# Altium footprint library TSOP.PcbLib: 9 footprints
Each footprint in its own frame and in the unit in brackets; x right, y up, seen from the top. Pads: shape width x height; smd on the part's side, far side on the other; paste and mask are expansions set on the pad; w line width, h text height; cw(c..) or ccw(c..) is an arc to the next point about the centre after c.
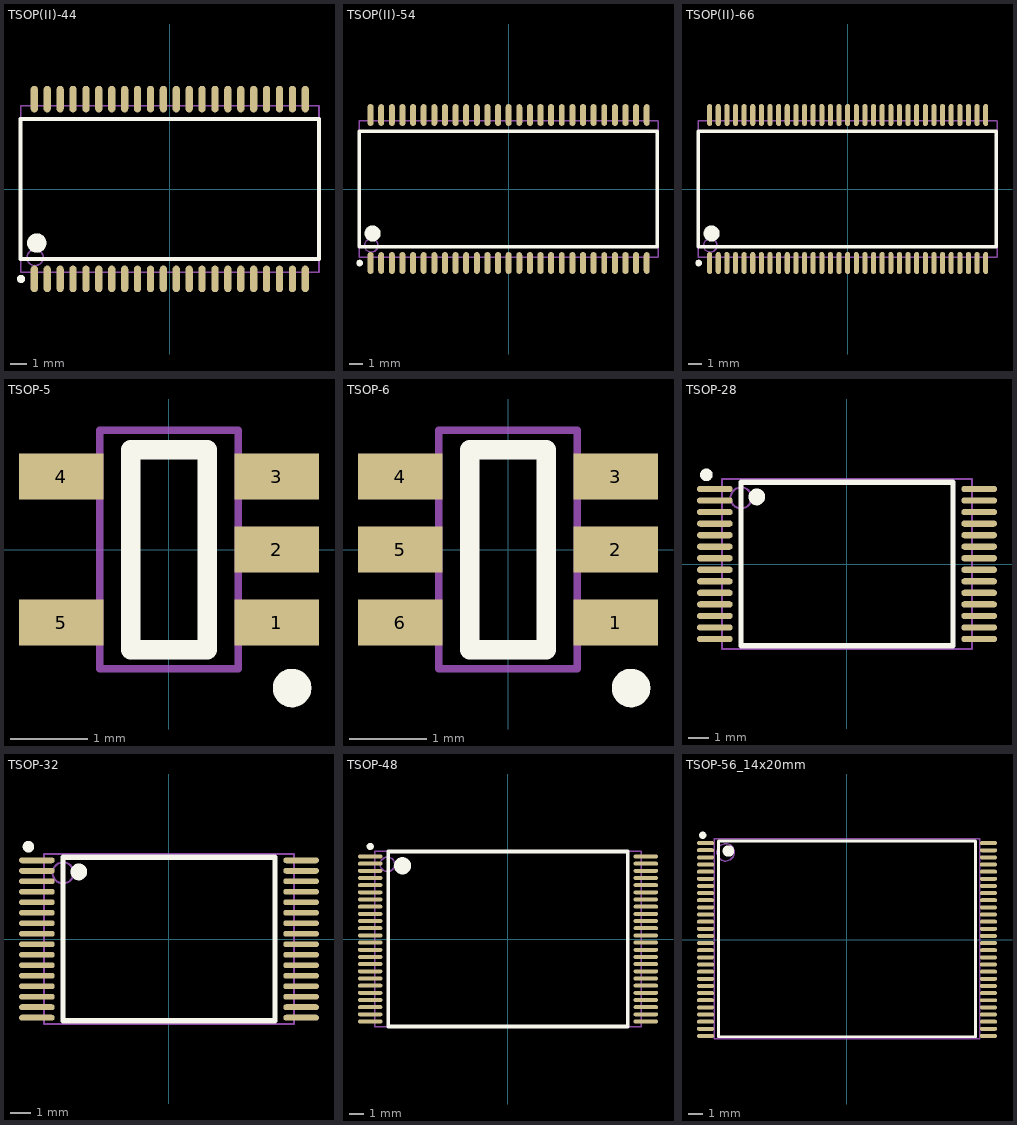
[diagram p0: the footprints below, top view; thin cyan lines are the x and y axes]

## TSOP(II)-44 [mm] "LC-TSOP(II)-44"
pads (44):
  oval 0.45x1.65 smd: 1(-8.4,-5.575) 2(-7.6,-5.575) 3(-6.8,-5.575) 4(-6,-5.575) 5(-5.2,-5.575) 6(-4.4,-5.575) 7(-3.6,-5.575) 8(-2.8,-5.575) 9(-2,-5.575) 10(-1.2,-5.575) 11(-0.4,-5.575) 12(0.4,-5.575) 13(1.2,-5.575) 14(2,-5.575) 15(2.8,-5.575) 16(3.6,-5.575) 17(4.4,-5.575) 18(5.2,-5.575) 19(6,-5.575) 20(6.8,-5.575) 21(7.6,-5.575) 22(8.4,-5.575) 23(8.4,5.575) 24(7.6,5.575) 25(6.8,5.575) 26(6,5.575) 27(5.2,5.575) 28(4.4,5.575) 29(3.6,5.575) 30(2.8,5.575) 31(2,5.575) 32(1.2,5.575) 33(0.4,5.575) 34(-0.4,5.575) 35(-1.2,5.575) 36(-2,5.575) 37(-2.8,5.575) 38(-3.6,5.575) 39(-4.4,5.575) 40(-5.2,5.575) 41(-6,5.575) 42(-6.8,5.575) 43(-7.6,5.575) 44(-8.4,5.575)
Top Overlay:
  circle w0.25: c-9.225,-5.575 r0.125
  circle w0.6: c-8.25,-3.35 r0.3
  lines w0.254: -9.25,-4.35 9.25,-4.35 9.25,4.35 -9.25,4.35 -9.25,-4.35
Mechanical 13:
  circle w0.1: c-8.35,-4.25 r0.5
  lines w0.1: -9.25,-5.15 9.25,-5.15 9.25,5.15 -9.25,5.15 -9.25,-5.15

## TSOP(II)-54 [mm]
pads (54):
  oval 0.45x1.65 smd: 1(-10.4,-5.575) 2(-9.6,-5.575) 3(-8.8,-5.575) 4(-8,-5.575) 5(-7.2,-5.575) 6(-6.4,-5.575) 7(-5.6,-5.575) 8(-4.8,-5.575) 9(-4,-5.575) 10(-3.2,-5.575) 11(-2.4,-5.575) 12(-1.6,-5.575) 13(-0.8,-5.575) 14(0,-5.575) 15(0.8,-5.575) 16(1.6,-5.575) 17(2.4,-5.575) 18(3.2,-5.575) 19(4,-5.575) 20(4.8,-5.575) 21(5.6,-5.575) 22(6.4,-5.575) 23(7.2,-5.575) 24(8,-5.575) 25(8.8,-5.575) 26(9.6,-5.575) 27(10.4,-5.575) 28(10.4,5.575) 29(9.6,5.575) 30(8.8,5.575) 31(8,5.575) 32(7.2,5.575) 33(6.4,5.575) 34(5.6,5.575) 35(4.8,5.575) 36(4,5.575) 37(3.2,5.575) 38(2.4,5.575) 39(1.6,5.575) 40(0.8,5.575) 41(0,5.575) 42(-0.8,5.575) 43(-1.6,5.575) 44(-2.4,5.575) 45(-3.2,5.575) 46(-4,5.575) 47(-4.8,5.575) 48(-5.6,5.575) 49(-6.4,5.575) 50(-7.2,5.575) 51(-8,5.575) 52(-8.8,5.575) 53(-9.6,5.575) 54(-10.4,5.575)
Top Overlay:
  circle w0.25: c-11.225,-5.575 r0.125
  circle w0.6: c-10.25,-3.35 r0.3
  lines w0.254: -11.25,-4.35 11.2,-4.35 11.2,4.35 -11.25,4.35 -11.25,-4.35
Mechanical 13:
  circle w0.1: c-10.35,-4.25 r0.5
  lines w0.1: -11.25,-5.15 11.25,-5.15 11.25,5.15 -11.25,5.15 -11.25,-5.15

## TSOP(II)-66 [mm]
pads (66):
  oval 0.38x1.65 smd mask+0.051: 1(-10.4,-5.575) 2(-9.75,-5.575) 3(-9.1,-5.575) 4(-8.45,-5.575) 5(-7.8,-5.575) 6(-7.15,-5.575) 7(-6.5,-5.575) 8(-5.85,-5.575) 9(-5.2,-5.575) 10(-4.55,-5.575) 11(-3.9,-5.575) 12(-3.25,-5.575) 13(-2.6,-5.575) 14(-1.95,-5.575) 15(-1.3,-5.575) 16(-0.65,-5.575) 17(0,-5.575) 18(0.65,-5.575) 19(1.3,-5.575) 20(1.95,-5.575) 21(2.6,-5.575) 22(3.25,-5.575) 23(3.9,-5.575) 24(4.55,-5.575) 25(5.2,-5.575) 26(5.85,-5.575) 27(6.5,-5.575) 28(7.15,-5.575) 29(7.8,-5.575) 30(8.45,-5.575) 31(9.1,-5.575) 32(9.75,-5.575) 33(10.4,-5.575) 34(10.4,5.575) 35(9.75,5.575) 36(9.1,5.575) 37(8.45,5.575) 38(7.8,5.575) 39(7.15,5.575) 40(6.5,5.575) 41(5.85,5.575) 42(5.2,5.575) 43(4.55,5.575) 44(3.9,5.575) 45(3.25,5.575) 46(2.6,5.575) 47(1.95,5.575) 48(1.3,5.575) 49(0.65,5.575) 50(0,5.575) 51(-0.65,5.575) 52(-1.3,5.575) 53(-1.95,5.575) 54(-2.6,5.575) 55(-3.25,5.575) 56(-3.9,5.575) 57(-4.55,5.575) 58(-5.2,5.575) 59(-5.85,5.575) 60(-6.5,5.575) 61(-7.15,5.575) 62(-7.8,5.575) 63(-8.45,5.575) 64(-9.1,5.575) 65(-9.75,5.575) 66(-10.4,5.575)
Top Overlay:
  circle w0.6: c-10.25,-3.35 r0.3
  circle w0.25: c-11.225,-5.575 r0.125
  lines w0.254: -11.25,-4.35 -11.25,4.35 11.2,4.35 11.2,-4.35 -11.25,-4.35
Mechanical 13:
  circle w0.1: c-10.35,-4.25 r0.5
  lines w0.1: -11.25,-5.15 -11.25,5.15 11.25,5.15 11.25,-5.15 -11.25,-5.15

## TSOP-5 [mm]
pads (5):
  rect 1.1x0.6 smd mask+0.102: 1(1.4,-0.95) 2(1.4,0) 3(1.4,0.95) 4(-1.4,0.95) 5(-1.4,-0.95)
Top Overlay:
  circle w0.25: c1.6,-1.8 r0.125
  lines w0.254: -0.5,-1.3 -0.5,1.3 0.5,1.3 0.5,-1.3 -0.5,-1.3
Mechanical 13:
  lines w0.1: -0.9,-1.55 -0.9,1.55 0.9,1.55 0.9,-1.55 -0.9,-1.55

## TSOP-6 [mm]
pads (6):
  rect 1.1x0.6 smd: 1(1.4,-0.95) 2(1.4,0) 3(1.4,0.95) 4(-1.4,0.95) 5(-1.4,0) 6(-1.4,-0.95)
Top Overlay:
  circle w0.25: c1.6,-1.8 r0.125
  lines w0.254: -0.5,-1.3 -0.5,1.3 0.5,1.3 0.5,-1.3 -0.5,-1.3
Mechanical 13:
  lines w0.1: -0.9,-1.55 -0.9,1.55 0.9,1.55 0.9,-1.55 -0.9,-1.55

## TSOP-28 [mm]
pads (28):
  oval 1.7x0.3 smd mask+0.051: 1(-6.3,3.575) 2(-6.3,3.025) 3(-6.3,2.475) 4(-6.3,1.925) 5(-6.3,1.375) 6(-6.3,0.825) 7(-6.3,0.275) 8(-6.3,-0.275) 9(-6.3,-0.825) 10(-6.3,-1.375) 11(-6.3,-1.925) 12(-6.3,-2.475) 13(-6.3,-3.025) 14(-6.3,-3.575) 15(6.3,-3.575) 16(6.3,-3.025) 17(6.3,-2.475) 18(6.3,-1.925) 19(6.3,-1.375) 20(6.3,-0.825) 21(6.3,-0.275) 22(6.3,0.275) 23(6.3,0.825) 24(6.3,1.375) 25(6.3,1.925) 26(6.3,2.475) 27(6.3,3.025) 28(6.3,3.575)
Top Overlay:
  circle w0.3: c-6.7,4.25 r0.15
  circle w0.4: c-4.3,3.2 r0.2
  lines w0.254: -5.05,-3.9 5.05,-3.9 5.05,3.9 -5.05,3.9 -5.05,-3.9
Mechanical 13:
  circle w0.1: c-5.05,3.15 r0.5
  lines w0.1: -5.95,-4.05 5.95,-4.05 5.95,4.05 -5.95,4.05 -5.95,-4.05

## TSOP-32 [mm]
pads (32):
  oval 1.7x0.28 smd mask+0.051: 1(-6.3,3.75) 2(-6.3,3.25) 3(-6.3,2.75) 4(-6.3,2.25) 5(-6.3,1.75) 6(-6.3,1.25) 7(-6.3,0.75) 8(-6.3,0.25) 9(-6.3,-0.25) 10(-6.3,-0.75) 11(-6.3,-1.25) 12(-6.3,-1.75) 13(-6.3,-2.25) 14(-6.3,-2.75) 15(-6.3,-3.25) 16(-6.3,-3.75) 17(6.3,-3.75) 18(6.3,-3.25) 19(6.3,-2.75) 20(6.3,-2.25) 21(6.3,-1.75) 22(6.3,-1.25) 23(6.3,-0.75) 24(6.3,-0.25) 25(6.3,0.25) 26(6.3,0.75) 27(6.3,1.25) 28(6.3,1.75) 29(6.3,2.25) 30(6.3,2.75) 31(6.3,3.25) 32(6.3,3.75)
Top Overlay:
  circle w0.3: c-6.7,4.4 r0.125
  circle w0.4: c-4.3,3.2 r0.2
  lines w0.254: -5.05,-3.9 5.05,-3.9 5.05,3.9 -5.05,3.9 -5.05,-3.9
Mechanical 13:
  circle w0.1: c-5.05,3.15 r0.5
  lines w0.1: -5.95,-4.05 5.95,-4.05 5.95,4.05 -5.95,4.05 -5.95,-4.05

## TSOP-48 [mm]
pads (48):
  oval 1.7x0.28 smd mask+0.051: 1(-9.6,5.75) 2(-9.6,5.25) 3(-9.6,4.75) 4(-9.6,4.25) 5(-9.6,3.75) 6(-9.6,3.25) 7(-9.6,2.75) 8(-9.6,2.25) 9(-9.6,1.75) 10(-9.6,1.25) 11(-9.6,0.75) 12(-9.6,0.25) 13(-9.6,-0.25) 14(-9.6,-0.75) 15(-9.6,-1.25) 16(-9.6,-1.75) 17(-9.6,-2.25) 18(-9.6,-2.75) 19(-9.6,-3.25) 20(-9.6,-3.75) 21(-9.6,-4.25) 22(-9.6,-4.75) 23(-9.6,-5.25) 24(-9.6,-5.75) 25(9.6,-5.75) 26(9.6,-5.25) 27(9.6,-4.75) 28(9.6,-4.25) 29(9.6,-3.75) 30(9.6,-3.25) 31(9.6,-2.75) 32(9.6,-2.25) 33(9.6,-1.75) 34(9.6,-1.25) 35(9.6,-0.75) 36(9.6,-0.25) 37(9.6,0.25) 38(9.6,0.75) 39(9.6,1.25) 40(9.6,1.75) 41(9.6,2.25) 42(9.6,2.75) 43(9.6,3.25) 44(9.6,3.75) 45(9.6,4.25) 46(9.6,4.75) 47(9.6,5.25) 48(9.6,5.75)
Top Overlay:
  circle w0.6: c-7.35,5.1 r0.3
  circle w0.25: c-9.6,6.45 r0.125
  lines w0.254: -8.35,-6.1 8.35,-6.1 8.35,6.1 -8.35,6.1 -8.35,-6.1
Mechanical 13:
  circle w0.1: c-8.4,5.2 r0.5
  lines w0.1: -9.3,-6.1 9.3,-6.1 9.3,6.1 -9.3,6.1 -9.3,-6.1

## TSOP-56_14x20mm [mm]
pads (56):
  oval 1.2x0.28 smd mask+0.051: 1(-9.9,6.75) 2(-9.9,6.25) 3(-9.9,5.75) 4(-9.9,5.25) 5(-9.9,4.75) 6(-9.9,4.25) 7(-9.9,3.75) 8(-9.9,3.25) 9(-9.9,2.75) 10(-9.9,2.25) 11(-9.9,1.75) 12(-9.9,1.25) 13(-9.9,0.75) 14(-9.9,0.25) 15(-9.9,-0.25) 16(-9.9,-0.75) 17(-9.9,-1.25) 18(-9.9,-1.75) 19(-9.9,-2.25) 20(-9.9,-2.75) 21(-9.9,-3.25) 22(-9.9,-3.75) 23(-9.9,-4.25) 24(-9.9,-4.75) 25(-9.9,-5.25) 26(-9.9,-5.75) 27(-9.9,-6.25) 28(-9.9,-6.75) 29(9.9,-6.75) 30(9.9,-6.25) 31(9.9,-5.75) 32(9.9,-5.25) 33(9.9,-4.75) 34(9.9,-4.25) 35(9.9,-3.75) 36(9.9,-3.25) 37(9.9,-2.75) 38(9.9,-2.25) 39(9.9,-1.75) 40(9.9,-1.25) 41(9.9,-0.75) 42(9.9,-0.25) 43(9.9,0.25) 44(9.9,0.75) 45(9.9,1.25) 46(9.9,1.75) 47(9.9,2.25) 48(9.9,2.75) 49(9.9,3.25) 50(9.9,3.75) 51(9.9,4.25) 52(9.9,4.75) 53(9.9,5.25) 54(9.9,5.75) 55(9.9,6.25) 56(9.9,6.75)
Top Overlay:
  circle w0.4: c-8.3,6.2 r0.2
  circle w0.25: c-10.1,7.3 r0.125
  lines w0.2: -9,-6.8 9,-6.8 9,6.9 -9,6.9 -9,-6.8
Mechanical 13:
  circle w0.1: c-8.5,6.1 r0.608
  lines w0.1: -9.3,-6.95 -9.3,7.05 9.3,7.05 9.3,-6.95 -9.3,-6.95